# EAGLE library part LMZ23605TZE/NOPB (library fish_lmz2_ti)
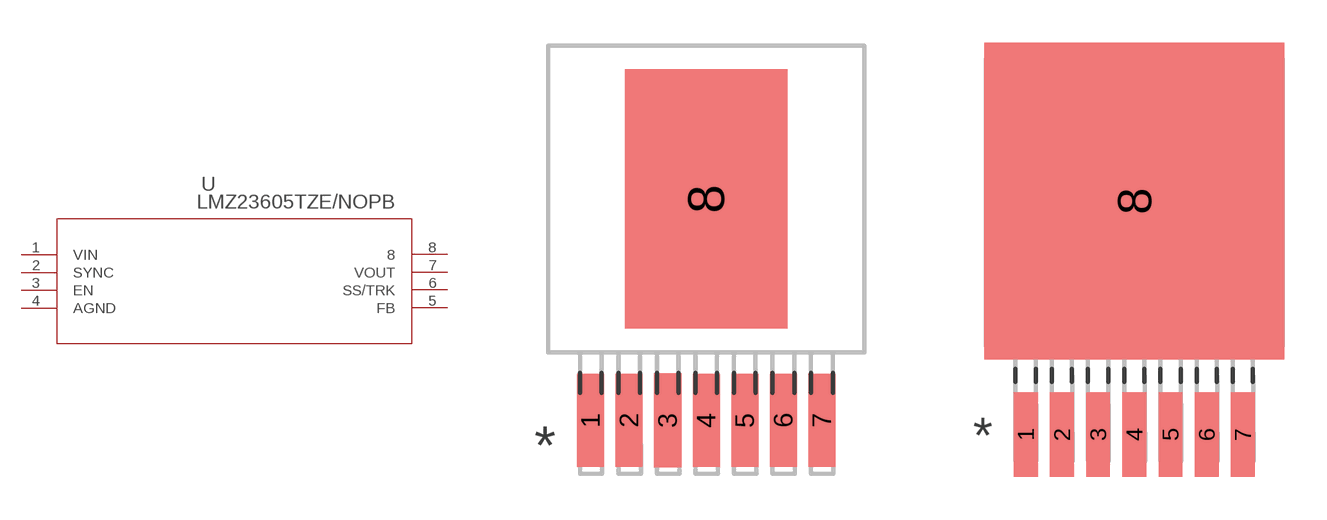
[diagram p0: symbol with the pads of TZA07A; footprints TZA07A, TZA07A-M]

Designator prefix U

## LMZ23605TZE/NOPB (MANUFACTURER_PART_NUMBER: LMZ23605TZENOPB; VENDOR: Texas Instruments)  [TZA07A]
1  VIN  in
2  SYNC  in
3  EN  in
4  AGND  pwr
5  FB  in
6  SS/TRK
7  VOUT  out
8  8  pas

## LMZ23605TZE/NOPBTZA07A-M (MANUFACTURER_PART_NUMBER: LMZ23605TZENOPB; VENDOR: Texas Instruments)  [TZA07A-M]
Pads as for TZA07A

## LMZ23605TZE/NOPBTZA07A-L (MANUFACTURER_PART_NUMBER: LMZ23605TZENOPB; VENDOR: Texas Instruments)  [TZA07A-L]
Pads as for TZA07A

## LMZ23605TZE/NOPBTZA07A-THERMAL  [TZA07A_THERMAL]
1  VIN  in
2  SYNC  in
3  EN  in
4  AGND  pwr
5  FB  in
6  SS/TRK
7  VOUT  out
8  8  pas
P$1  8  pas
P$2  8  pas
P$3  8  pas
P$4  8  pas
P$5  8  pas
P$6  8  pas
P$7  8  pas
P$8  8  pas
P$9  8  pas
P$10  8  pas
P$11  8  pas
P$12  8  pas
P$13  8  pas
P$14  8  pas
P$15  8  pas
P$16  8  pas
P$17  8  pas
P$18  8  pas
P$19  8  pas
P$20  8  pas
P$21  8  pas
P$22  8  pas
P$23  8  pas
P$24  8  pas
P$25  8  pas
P$26  8  pas
P$27  8  pas
P$28  8  pas
P$29  8  pas
P$30  8  pas
P$31  8  pas
P$32  8  pas
P$33  8  pas
P$34  8  pas
P$35  8  pas
P$36  8  pas
P$37  8  pas
P$38  8  pas
P$39  8  pas
P$40  8  pas
P$41  8  pas
P$42  8  pas
P$43  8  pas
P$44  8  pas
P$45  8  pas
P$46  8  pas
P$47  8  pas
P$48  8  pas
P$49  8  pas
P$50  8  pas
P$51  8  pas
P$52  8  pas
P$53  8  pas
P$54  8  pas

## LMZ23605TZE/NOPBTZA07A_THERMAL_TABBED  [TZA07A_THERMAL_TABBED]
Pads as for TZA07A_THERMAL

## Footprint TZA07A (pad centres in mm)
smd 0.89 x 3.06: 1 -3.81,-7.305; 2 -2.54,-7.305; 4 0,-7.305; 5 1.27,-7.305; 6 2.54,-7.305; 7 3.81,-7.305
smd 0.89 x 3.09: 3 -1.27,-7.305
smd 5.35 x 8.54: 8 0,0

## Footprint TZA07A-M (pad centres in mm)
smd 0.838 x 2.972: 1 -3.81,-8.141; 2 -2.54,-8.141; 3 -1.27,-8.141; 4 0,-8.141; 5 1.27,-8.141; 6 2.54,-8.141; 7 3.81,-8.141
smd 10.516 x 11.125: 8 0,0.051

## Footprint TZA07A-L (pad centres in mm)
smd 0.737 x 2.362: 1 -3.81,-8.039; 2 -2.54,-8.039; 3 -1.27,-8.039; 4 0,-8.039; 5 1.27,-8.039; 6 2.54,-8.039; 7 3.81,-8.039
smd 10.414 x 10.516: 8 0,-0.051

## Footprint TZA07A_THERMAL (pad centres in mm)
smd 0.89 x 3.06: 1 -3.81,-7.305; 2 -2.54,-7.305; 4 0,-7.305; 5 1.27,-7.305; 6 2.54,-7.305; 7 3.81,-7.305
smd 0.89 x 3.09: 3 -1.27,-7.305
smd 5.512 x 8.661: 8 0,0
drill 0.254 pad 0.406: P$1 -2.464,3.81; P$2 -1.473,3.81; P$3 -0.483,3.81; P$4 0.508,3.81; P$5 1.499,3.81; P$6 2.489,3.81; P$7 -2.464,2.819; P$8 -1.473,2.819; P$9 -0.483,2.819; P$10 0.508,2.819; P$11 1.499,2.819; P$12 2.489,2.819; P$13 -2.464,1.829; P$14 -1.473,1.829; P$15 -0.483,1.829; P$16 0.508,1.829; P$17 1.499,1.829; P$18 2.489,1.829; P$19 -2.464,0.838; P$20 -1.473,0.838; P$21 -0.483,0.838; P$22 0.508,0.838; P$23 1.499,0.838; P$24 2.489,0.838; P$25 -2.464,-0.152; P$26 -1.473,-0.152; P$27 -0.483,-0.152; P$28 0.508,-0.152; P$29 1.499,-0.152; P$30 2.489,-0.152; P$31 -2.464,-1.143; P$32 -1.473,-1.143; P$33 -0.483,-1.143; P$34 0.508,-1.143; P$35 1.499,-1.143; P$36 2.489,-1.143; P$37 -2.464,-2.134; P$38 -1.473,-2.134; P$39 -0.483,-2.134; P$40 0.508,-2.134; P$41 1.499,-2.134; P$42 2.489,-2.134; P$43 -2.464,-3.124; P$44 -1.473,-3.124; P$45 -0.483,-3.124; P$46 0.508,-3.124; P$47 1.499,-3.124; P$48 2.489,-3.124; P$49 -2.464,-4.115; P$50 -1.473,-4.115; P$51 -0.483,-4.115; P$52 0.508,-4.115; P$53 1.499,-4.115; P$54 2.489,-4.115

## Footprint TZA07A_THERMAL_TABBED (pad centres in mm)
smd 0.89 x 3.06: 1 -3.81,-7.305; 2 -2.54,-7.305; 4 0,-7.305; 5 1.27,-7.305; 6 2.54,-7.305; 7 3.81,-7.305
smd 0.89 x 3.09: 3 -1.27,-7.305
smd 5.512 x 8.661: 8 0,0
drill 0.33 pad 0.61: P$1 -2.464,3.81; P$2 -1.473,3.81; P$3 -0.483,3.81; P$4 0.508,3.81; P$5 1.499,3.81; P$6 2.489,3.81; P$7 -2.464,2.819; P$8 -1.473,2.819; P$9 -0.483,2.819; P$10 0.508,2.819; P$11 1.499,2.819; P$12 2.489,2.819; P$13 -2.464,1.829; P$14 -1.473,1.829; P$15 -0.483,1.829; P$16 0.508,1.829; P$17 1.499,1.829; P$18 2.489,1.829; P$19 -2.464,0.838; P$20 -1.473,0.838; P$21 -0.483,0.838; P$22 0.508,0.838; P$23 1.499,0.838; P$24 2.489,0.838; P$25 -2.464,-0.152; P$26 -1.473,-0.152; P$27 -0.483,-0.152; P$28 0.508,-0.152; P$29 1.499,-0.152; P$30 2.489,-0.152; P$31 -2.464,-1.143; P$32 -1.473,-1.143; P$33 -0.483,-1.143; P$34 0.508,-1.143; P$35 1.499,-1.143; P$36 2.489,-1.143; P$37 -2.464,-2.134; P$38 -1.473,-2.134; P$39 -0.483,-2.134; P$40 0.508,-2.134; P$41 1.499,-2.134; P$42 2.489,-2.134; P$43 -2.464,-3.124; P$44 -1.473,-3.124; P$45 -0.483,-3.124; P$46 0.508,-3.124; P$47 1.499,-3.124; P$48 2.489,-3.124; P$49 -2.464,-4.115; P$50 -1.473,-4.115; P$51 -0.483,-4.115; P$52 0.508,-4.115; P$53 1.499,-4.115; P$54 2.489,-4.115